# EAGLE library part 12PIN (library 5051)
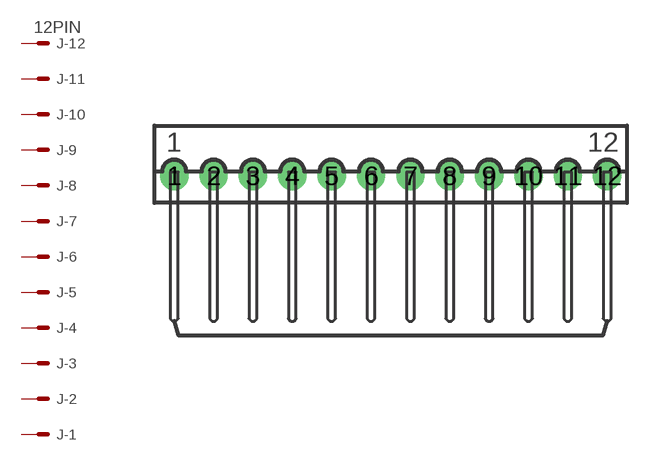
[diagram p2: symbol with the pads of 5046-12; footprint 5046-12]

Designator prefix J; gates -12=MV -11=M -10=M -9=M -8=M -7=M -6=M -5=M -4=M -3=M -2=M -1=M

## 12PIN  [5046-12]
1  -1:S  pas
2  -2:S  pas
3  -3:S  pas
4  -4:S  pas
5  -5:S  pas
6  -6:S  pas
7  -7:S  pas
8  -8:S  pas
9  -9:S  pas
10  -10:S  pas
11  -11:S  pas
12  -12:S  pas

## Footprint 5046-12 (pad centres in mm)
drill 1 pad 1.8: 1 -13.75,1.7; 2 -11.25,1.7; 3 -8.75,1.7; 4 -6.25,1.7; 5 -3.75,1.7; 6 -1.25,1.7; 7 1.25,1.7; 8 3.75,1.7; 9 6.25,1.7; 10 8.75,1.7; 11 11.25,1.7; 12 13.75,1.7